# EAGLE library part LT3494 (library OLED Watch Original Library)
Micropower Low Noise Boost Converters with Output Disconnect http://cds.linear.com/docs/en/datasheet/3494fb.pdf
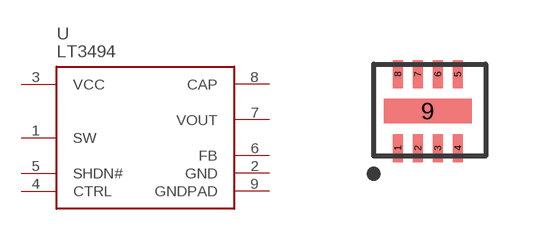
[diagram p1: symbol with the pads of DFN8-3X2-DDB; footprint DFN8-3X2-DDB]

Designator prefix U

## LT3494  [DFN8-3X2-DDB]
1  SW
2  GND
3  VCC
4  CTRL
5  SHDN#
6  FB
7  VOUT
8  CAP
9  GNDPAD

## Footprint DFN8-3X2-DDB (pad centres in mm)
DDB Package 8-Lead Plastic DFN (3mm × 2mm) Source: http://cds.linear.com/docs/en/datasheet/3494fb.pdf
smd 0.25 x 0.7: 1 0,0; 2 0.5,0; 3 1,0; 4 1.5,0; 5 1.5,1.85; 6 1,1.85; 7 0.5,1.85; 8 0,1.85
smd 2.2 x 0.61: 9 0.75,0.925